# Altium schematic symbol library Resistors_CPF-0805.SchLib: 384 symbols (part 1 of 3)
Pins are listed as number, name and electrical type; pins without a type are passive.

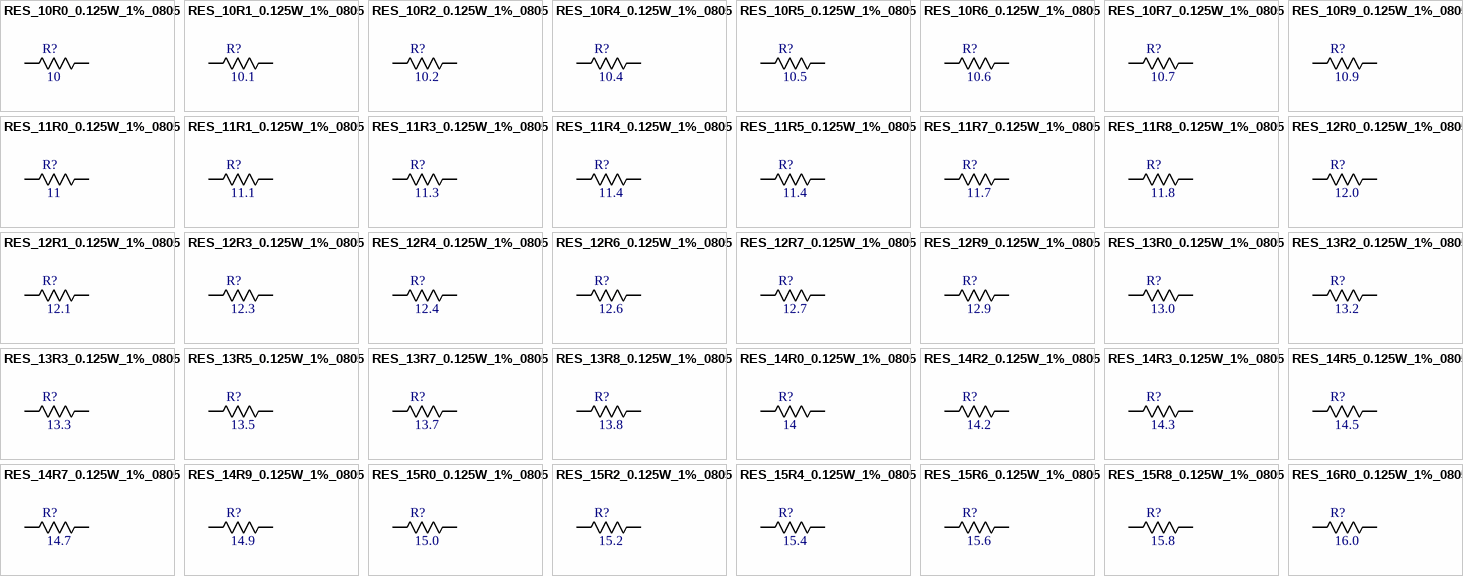
[diagram p0: symbols RES_10R0_0.125W_1%_0805 to RES_16R0_0.125W_1%_0805]

## RES_10R0_0.125W_1%_0805
designator R?, comment 10
Resistenza SMD TE Connectivity Film sottile; Manufacturer_Part_Number: CPF0805B100RE; Voltage[V]: 100; Tollerance[%]: 0.1; Serie: CPF; Codice RS: 666-2516; Vendor: TE Connectivity; Type: Resistors; Package: 0805; Power[W]: 0.1; Value[OHM ]: 100
footprint RES_0816_SUS(My_MAXI)
pins: 1, 2

## RES_10R1_0.125W_1%_0805
designator R?, comment 10.1
Resistenza SMD TE Connectivity Film sottile; Manufacturer_Part_Number: CPF0805B100RE; Voltage[V]: 100; Tollerance[%]: 0.1; Serie: CPF; Codice RS: 666-2516; Vendor: TE Connectivity; Type: Resistors; Package: 0805; Power[W]: 0.1; Value[OHM ]: 100
footprint RES_0816_SUS(My_MAXI)
pins: 1, 2

## RES_10R2_0.125W_1%_0805
designator R?, comment 10.2
Resistenza SMD TE Connectivity Film sottile; Manufacturer_Part_Number: CPF0805B100RE; Voltage[V]: 100; Tollerance[%]: 0.1; Serie: CPF; Codice RS: 666-2516; Vendor: TE Connectivity; Type: Resistors; Package: 0805; Power[W]: 0.1; Value[OHM ]: 100
footprint RES_0816_SUS(My_MAXI)
pins: 1, 2

## RES_10R4_0.125W_1%_0805
designator R?, comment 10.4
Resistenza SMD TE Connectivity Film sottile; Manufacturer_Part_Number: CPF0805B100RE; Voltage[V]: 100; Tollerance[%]: 0.1; Serie: CPF; Codice RS: 666-2516; Vendor: TE Connectivity; Type: Resistors; Package: 0805; Power[W]: 0.1; Value[OHM ]: 100
footprint RES_0816_SUS(My_MAXI)
pins: 1, 2

## RES_10R5_0.125W_1%_0805
designator R?, comment 10.5
Resistenza SMD TE Connectivity Film sottile; Manufacturer_Part_Number: CPF0805B100RE; Voltage[V]: 100; Tollerance[%]: 0.1; Serie: CPF; Codice RS: 666-2516; Vendor: TE Connectivity; Type: Resistors; Package: 0805; Power[W]: 0.1; Value[OHM ]: 100
footprint RES_0816_SUS(My_MAXI)
pins: 1, 2

## RES_10R6_0.125W_1%_0805
designator R?, comment 10.6
Resistenza SMD TE Connectivity Film sottile; Manufacturer_Part_Number: CPF0805B100RE; Voltage[V]: 100; Tollerance[%]: 0.1; Serie: CPF; Codice RS: 666-2516; Vendor: TE Connectivity; Type: Resistors; Package: 0805; Power[W]: 0.1; Value[OHM ]: 100
footprint RES_0816_SUS(My_MAXI)
pins: 1, 2

## RES_10R7_0.125W_1%_0805
designator R?, comment 10.7
Resistenza SMD TE Connectivity Film sottile; Manufacturer_Part_Number: CPF0805B100RE; Voltage[V]: 100; Tollerance[%]: 0.1; Serie: CPF; Codice RS: 666-2516; Vendor: TE Connectivity; Type: Resistors; Package: 0805; Power[W]: 0.1; Value[OHM ]: 100
footprint RES_0816_SUS(My_MAXI)
pins: 1, 2

## RES_10R9_0.125W_1%_0805
designator R?, comment 10.9
Resistenza SMD TE Connectivity Film sottile; Manufacturer_Part_Number: CPF0805B100RE; Voltage[V]: 100; Tollerance[%]: 0.1; Serie: CPF; Codice RS: 666-2516; Vendor: TE Connectivity; Type: Resistors; Package: 0805; Power[W]: 0.1; Value[OHM ]: 100
footprint RES_0816_SUS(My_MAXI)
pins: 1, 2

## RES_11R0_0.125W_1%_0805
designator R?, comment 11
Resistenza SMD TE Connectivity Film sottile; Manufacturer_Part_Number: CPF0805B100RE; Voltage[V]: 100; Tollerance[%]: 0.1; Serie: CPF; Codice RS: 666-2516; Vendor: TE Connectivity; Type: Resistors; Package: 0805; Power[W]: 0.1; Value[OHM ]: 100
footprint RES_0816_SUS(My_MAXI)
pins: 1, 2

## RES_11R1_0.125W_1%_0805
designator R?, comment 11.1
Resistenza SMD TE Connectivity Film sottile; Manufacturer_Part_Number: CPF0805B100RE; Voltage[V]: 100; Tollerance[%]: 0.1; Serie: CPF; Codice RS: 666-2516; Vendor: TE Connectivity; Type: Resistors; Package: 0805; Power[W]: 0.1; Value[OHM ]: 100
footprint RES_0816_SUS(My_MAXI)
pins: 1, 2

## RES_11R3_0.125W_1%_0805
designator R?, comment 11.3
Resistenza SMD TE Connectivity Film sottile; Manufacturer_Part_Number: CPF0805B100RE; Voltage[V]: 100; Tollerance[%]: 0.1; Serie: CPF; Codice RS: 666-2516; Vendor: TE Connectivity; Type: Resistors; Package: 0805; Power[W]: 0.1; Value[OHM ]: 100
footprint RES_0816_SUS(My_MAXI)
pins: 1, 2

## RES_11R4_0.125W_1%_0805
designator R?, comment 11.4
Resistenza SMD TE Connectivity Film sottile; Manufacturer_Part_Number: CPF0805B100RE; Voltage[V]: 100; Tollerance[%]: 0.1; Serie: CPF; Codice RS: 666-2516; Vendor: TE Connectivity; Type: Resistors; Package: 0805; Power[W]: 0.1; Value[OHM ]: 100
footprint RES_0816_SUS(My_MAXI)
pins: 1, 2

## RES_11R5_0.125W_1%_0805
designator R?, comment 11.4
Resistenza SMD TE Connectivity Film sottile; Manufacturer_Part_Number: CPF0805B100RE; Voltage[V]: 100; Tollerance[%]: 0.1; Serie: CPF; Codice RS: 666-2516; Vendor: TE Connectivity; Type: Resistors; Package: 0805; Power[W]: 0.1; Value[OHM ]: 100
footprint RES_0816_SUS(My_MAXI)
pins: 1, 2

## RES_11R7_0.125W_1%_0805
designator R?, comment 11.7
Resistenza SMD TE Connectivity Film sottile; Manufacturer_Part_Number: CPF0805B100RE; Voltage[V]: 100; Tollerance[%]: 0.1; Serie: CPF; Codice RS: 666-2516; Vendor: TE Connectivity; Type: Resistors; Package: 0805; Power[W]: 0.1; Value[OHM ]: 100
footprint RES_0816_SUS(My_MAXI)
pins: 1, 2

## RES_11R8_0.125W_1%_0805
designator R?, comment 11.8
Resistenza SMD TE Connectivity Film sottile; Manufacturer_Part_Number: CPF0805B100RE; Voltage[V]: 100; Tollerance[%]: 0.1; Serie: CPF; Codice RS: 666-2516; Vendor: TE Connectivity; Type: Resistors; Package: 0805; Power[W]: 0.1; Value[OHM ]: 100
footprint RES_0816_SUS(My_MAXI)
pins: 1, 2

## RES_12R0_0.125W_1%_0805
designator R?, comment 12.0
Resistenza SMD TE Connectivity Film sottile; Manufacturer_Part_Number: CPF0805B100RE; Voltage[V]: 100; Tollerance[%]: 0.1; Serie: CPF; Codice RS: 666-2516; Vendor: TE Connectivity; Type: Resistors; Package: 0805; Power[W]: 0.1; Value[OHM ]: 100
footprint RES_0816_SUS(My_MAXI)
pins: 1, 2

## RES_12R1_0.125W_1%_0805
designator R?, comment 12.1
Resistenza SMD TE Connectivity Film sottile; Manufacturer_Part_Number: CPF0805B100RE; Voltage[V]: 100; Tollerance[%]: 0.1; Serie: CPF; Codice RS: 666-2516; Vendor: TE Connectivity; Type: Resistors; Package: 0805; Power[W]: 0.1; Value[OHM ]: 100
footprint RES_0816_SUS(My_MAXI)
pins: 1, 2

## RES_12R3_0.125W_1%_0805
designator R?, comment 12.3
Resistenza SMD TE Connectivity Film sottile; Manufacturer_Part_Number: CPF0805B100RE; Voltage[V]: 100; Tollerance[%]: 0.1; Serie: CPF; Codice RS: 666-2516; Vendor: TE Connectivity; Type: Resistors; Package: 0805; Power[W]: 0.1; Value[OHM ]: 100
footprint RES_0816_SUS(My_MAXI)
pins: 1, 2

## RES_12R4_0.125W_1%_0805
designator R?, comment 12.4
Resistenza SMD TE Connectivity Film sottile; Manufacturer_Part_Number: CPF0805B100RE; Voltage[V]: 100; Tollerance[%]: 0.1; Serie: CPF; Codice RS: 666-2516; Vendor: TE Connectivity; Type: Resistors; Package: 0805; Power[W]: 0.1; Value[OHM ]: 100
footprint RES_0816_SUS(My_MAXI)
pins: 1, 2

## RES_12R6_0.125W_1%_0805
designator R?, comment 12.6
Resistenza SMD TE Connectivity Film sottile; Manufacturer_Part_Number: CPF0805B100RE; Voltage[V]: 100; Tollerance[%]: 0.1; Serie: CPF; Codice RS: 666-2516; Vendor: TE Connectivity; Type: Resistors; Package: 0805; Power[W]: 0.1; Value[OHM ]: 100
footprint RES_0816_SUS(My_MAXI)
pins: 1, 2

## RES_12R7_0.125W_1%_0805
designator R?, comment 12.7
Resistenza SMD TE Connectivity Film sottile; Manufacturer_Part_Number: CPF0805B100RE; Voltage[V]: 100; Tollerance[%]: 0.1; Serie: CPF; Codice RS: 666-2516; Vendor: TE Connectivity; Type: Resistors; Package: 0805; Power[W]: 0.1; Value[OHM ]: 100
footprint RES_0816_SUS(My_MAXI)
pins: 1, 2

## RES_12R9_0.125W_1%_0805
designator R?, comment 12.9
Resistenza SMD TE Connectivity Film sottile; Manufacturer_Part_Number: CPF0805B100RE; Voltage[V]: 100; Tollerance[%]: 0.1; Serie: CPF; Codice RS: 666-2516; Vendor: TE Connectivity; Type: Resistors; Package: 0805; Power[W]: 0.1; Value[OHM ]: 100
footprint RES_0816_SUS(My_MAXI)
pins: 1, 2

## RES_13R0_0.125W_1%_0805
designator R?, comment 13.0
Resistenza SMD TE Connectivity Film sottile; Manufacturer_Part_Number: CPF0805B100RE; Voltage[V]: 100; Tollerance[%]: 0.1; Serie: CPF; Codice RS: 666-2516; Vendor: TE Connectivity; Type: Resistors; Package: 0805; Power[W]: 0.1; Value[OHM ]: 100
footprint RES_0816_SUS(My_MAXI)
pins: 1, 2

## RES_13R2_0.125W_1%_0805
designator R?, comment 13.2
Resistenza SMD TE Connectivity Film sottile; Manufacturer_Part_Number: CPF0805B100RE; Voltage[V]: 100; Tollerance[%]: 0.1; Serie: CPF; Codice RS: 666-2516; Vendor: TE Connectivity; Type: Resistors; Package: 0805; Power[W]: 0.1; Value[OHM ]: 100
footprint RES_0816_SUS(My_MAXI)
pins: 1, 2

## RES_13R3_0.125W_1%_0805
designator R?, comment 13.3
Resistenza SMD TE Connectivity Film sottile; Manufacturer_Part_Number: CPF0805B100RE; Voltage[V]: 100; Tollerance[%]: 0.1; Serie: CPF; Codice RS: 666-2516; Vendor: TE Connectivity; Type: Resistors; Package: 0805; Power[W]: 0.1; Value[OHM ]: 100
footprint RES_0816_SUS(My_MAXI)
pins: 1, 2

## RES_13R5_0.125W_1%_0805
designator R?, comment 13.5
Resistenza SMD TE Connectivity Film sottile; Manufacturer_Part_Number: CPF0805B100RE; Voltage[V]: 100; Tollerance[%]: 0.1; Serie: CPF; Codice RS: 666-2516; Vendor: TE Connectivity; Type: Resistors; Package: 0805; Power[W]: 0.1; Value[OHM ]: 100
footprint RES_0816_SUS(My_MAXI)
pins: 1, 2

## RES_13R7_0.125W_1%_0805
designator R?, comment 13.7
Resistenza SMD TE Connectivity Film sottile; Manufacturer_Part_Number: CPF0805B100RE; Voltage[V]: 100; Tollerance[%]: 0.1; Serie: CPF; Codice RS: 666-2516; Vendor: TE Connectivity; Type: Resistors; Package: 0805; Power[W]: 0.1; Value[OHM ]: 100
footprint RES_0816_SUS(My_MAXI)
pins: 1, 2

## RES_13R8_0.125W_1%_0805
designator R?, comment 13.8
Resistenza SMD TE Connectivity Film sottile; Manufacturer_Part_Number: CPF0805B100RE; Voltage[V]: 100; Tollerance[%]: 0.1; Serie: CPF; Codice RS: 666-2516; Vendor: TE Connectivity; Type: Resistors; Package: 0805; Power[W]: 0.1; Value[OHM ]: 100
footprint RES_0816_SUS(My_MAXI)
pins: 1, 2

## RES_14R0_0.125W_1%_0805
designator R?, comment 14
Resistenza SMD TE Connectivity Film sottile; Manufacturer_Part_Number: CPF0805B100RE; Voltage[V]: 100; Tollerance[%]: 0.1; Serie: CPF; Codice RS: 666-2516; Vendor: TE Connectivity; Type: Resistors; Package: 0805; Power[W]: 0.1; Value[OHM ]: 100
footprint RES_0816_SUS(My_MAXI)
pins: 1, 2

## RES_14R2_0.125W_1%_0805
designator R?, comment 14.2
Resistenza SMD TE Connectivity Film sottile; Manufacturer_Part_Number: CPF0805B100RE; Voltage[V]: 100; Tollerance[%]: 0.1; Serie: CPF; Codice RS: 666-2516; Vendor: TE Connectivity; Type: Resistors; Package: 0805; Power[W]: 0.1; Value[OHM ]: 100
footprint RES_0816_SUS(My_MAXI)
pins: 1, 2

## RES_14R3_0.125W_1%_0805
designator R?, comment 14.3
Resistenza SMD TE Connectivity Film sottile; Manufacturer_Part_Number: CPF0805B100RE; Voltage[V]: 100; Tollerance[%]: 0.1; Serie: CPF; Codice RS: 666-2516; Vendor: TE Connectivity; Type: Resistors; Package: 0805; Power[W]: 0.1; Value[OHM ]: 100
footprint RES_0816_SUS(My_MAXI)
pins: 1, 2

## RES_14R5_0.125W_1%_0805
designator R?, comment 14.5
Resistenza SMD TE Connectivity Film sottile; Manufacturer_Part_Number: CPF0805B100RE; Voltage[V]: 100; Tollerance[%]: 0.1; Serie: CPF; Codice RS: 666-2516; Vendor: TE Connectivity; Type: Resistors; Package: 0805; Power[W]: 0.1; Value[OHM ]: 100
footprint RES_0816_SUS(My_MAXI)
pins: 1, 2

## RES_14R7_0.125W_1%_0805
designator R?, comment 14.7
Resistenza SMD TE Connectivity Film sottile; Manufacturer_Part_Number: CPF0805B100RE; Voltage[V]: 100; Tollerance[%]: 0.1; Serie: CPF; Codice RS: 666-2516; Vendor: TE Connectivity; Type: Resistors; Package: 0805; Power[W]: 0.1; Value[OHM ]: 100
footprint RES_0816_SUS(My_MAXI)
pins: 1, 2

## RES_14R9_0.125W_1%_0805
designator R?, comment 14.9
Resistenza SMD TE Connectivity Film sottile; Manufacturer_Part_Number: CPF0805B100RE; Voltage[V]: 100; Tollerance[%]: 0.1; Serie: CPF; Codice RS: 666-2516; Vendor: TE Connectivity; Type: Resistors; Package: 0805; Power[W]: 0.1; Value[OHM ]: 100
footprint RES_0816_SUS(My_MAXI)
pins: 1, 2

## RES_15R0_0.125W_1%_0805
designator R?, comment 15.0
Resistenza SMD TE Connectivity Film sottile; Manufacturer_Part_Number: CPF0805B100RE; Voltage[V]: 100; Tollerance[%]: 0.1; Serie: CPF; Codice RS: 666-2516; Vendor: TE Connectivity; Type: Resistors; Package: 0805; Power[W]: 0.1; Value[OHM ]: 100
footprint RES_0816_SUS(My_MAXI)
pins: 1, 2

## RES_15R2_0.125W_1%_0805
designator R?, comment 15.2
Resistenza SMD TE Connectivity Film sottile; Manufacturer_Part_Number: CPF0805B100RE; Voltage[V]: 100; Tollerance[%]: 0.1; Serie: CPF; Codice RS: 666-2516; Vendor: TE Connectivity; Type: Resistors; Package: 0805; Power[W]: 0.1; Value[OHM ]: 100
footprint RES_0816_SUS(My_MAXI)
pins: 1, 2

## RES_15R4_0.125W_1%_0805
designator R?, comment 15.4
Resistenza SMD TE Connectivity Film sottile; Manufacturer_Part_Number: CPF0805B100RE; Voltage[V]: 100; Tollerance[%]: 0.1; Serie: CPF; Codice RS: 666-2516; Vendor: TE Connectivity; Type: Resistors; Package: 0805; Power[W]: 0.1; Value[OHM ]: 100
footprint RES_0816_SUS(My_MAXI)
pins: 1, 2

## RES_15R6_0.125W_1%_0805
designator R?, comment 15.6
Resistenza SMD TE Connectivity Film sottile; Manufacturer_Part_Number: CPF0805B100RE; Voltage[V]: 100; Tollerance[%]: 0.1; Serie: CPF; Codice RS: 666-2516; Vendor: TE Connectivity; Type: Resistors; Package: 0805; Power[W]: 0.1; Value[OHM ]: 100
footprint RES_0816_SUS(My_MAXI)
pins: 1, 2

## RES_15R8_0.125W_1%_0805
designator R?, comment 15.8
Resistenza SMD TE Connectivity Film sottile; Manufacturer_Part_Number: CPF0805B100RE; Voltage[V]: 100; Tollerance[%]: 0.1; Serie: CPF; Codice RS: 666-2516; Vendor: TE Connectivity; Type: Resistors; Package: 0805; Power[W]: 0.1; Value[OHM ]: 100
footprint RES_0816_SUS(My_MAXI)
pins: 1, 2

## RES_16R0_0.125W_1%_0805
designator R?, comment 16.0
Resistenza SMD TE Connectivity Film sottile; Manufacturer_Part_Number: CPF0805B100RE; Voltage[V]: 100; Tollerance[%]: 0.1; Serie: CPF; Codice RS: 666-2516; Vendor: TE Connectivity; Type: Resistors; Package: 0805; Power[W]: 0.1; Value[OHM ]: 100
footprint RES_0816_SUS(My_MAXI)
pins: 1, 2

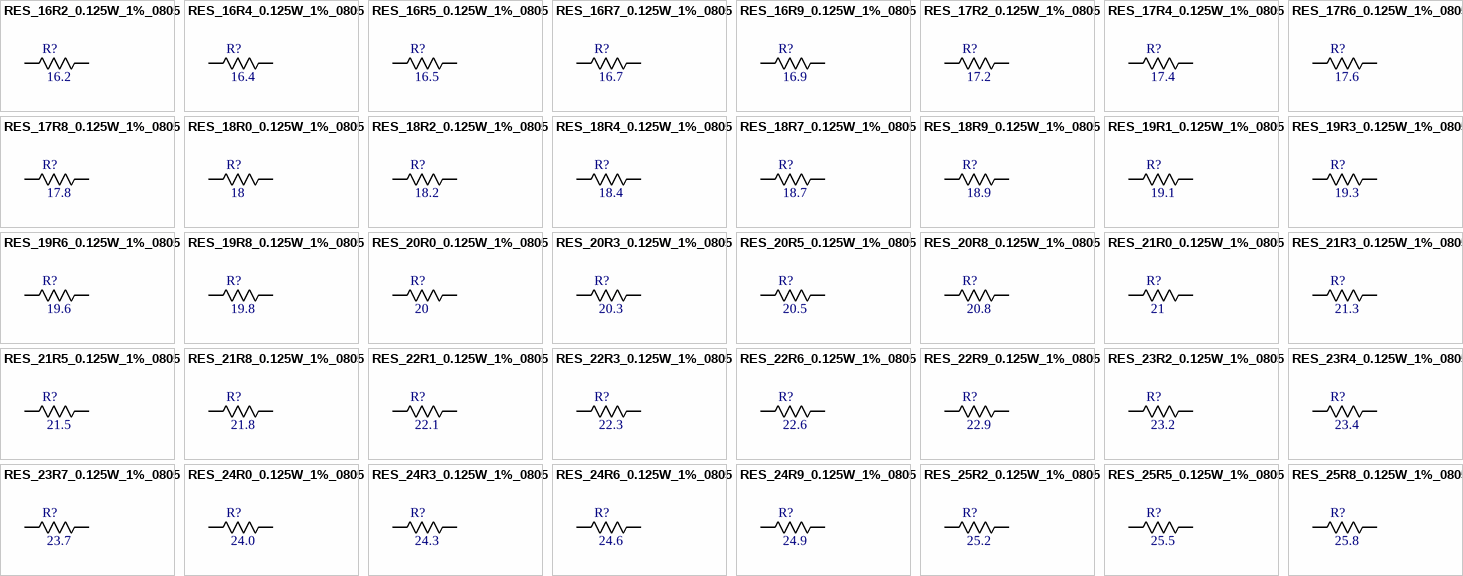
[diagram p1: symbols RES_16R2_0.125W_1%_0805 to RES_25R8_0.125W_1%_0805]

## RES_16R2_0.125W_1%_0805
designator R?, comment 16.2
Resistenza SMD TE Connectivity Film sottile; Manufacturer_Part_Number: CPF0805B100RE; Voltage[V]: 100; Tollerance[%]: 0.1; Serie: CPF; Codice RS: 666-2516; Vendor: TE Connectivity; Type: Resistors; Package: 0805; Power[W]: 0.1; Value[OHM ]: 100
footprint RES_0816_SUS(My_MAXI)
pins: 1, 2

## RES_16R4_0.125W_1%_0805
designator R?, comment 16.4
Resistenza SMD TE Connectivity Film sottile; Manufacturer_Part_Number: CPF0805B100RE; Voltage[V]: 100; Tollerance[%]: 0.1; Serie: CPF; Codice RS: 666-2516; Vendor: TE Connectivity; Type: Resistors; Package: 0805; Power[W]: 0.1; Value[OHM ]: 100
footprint RES_0816_SUS(My_MAXI)
pins: 1, 2

## RES_16R5_0.125W_1%_0805
designator R?, comment 16.5
Resistenza SMD TE Connectivity Film sottile; Manufacturer_Part_Number: CPF0805B100RE; Voltage[V]: 100; Tollerance[%]: 0.1; Serie: CPF; Codice RS: 666-2516; Vendor: TE Connectivity; Type: Resistors; Package: 0805; Power[W]: 0.1; Value[OHM ]: 100
footprint RES_0816_SUS(My_MAXI)
pins: 1, 2

## RES_16R7_0.125W_1%_0805
designator R?, comment 16.7
Resistenza SMD TE Connectivity Film sottile; Manufacturer_Part_Number: CPF0805B100RE; Voltage[V]: 100; Tollerance[%]: 0.1; Serie: CPF; Codice RS: 666-2516; Vendor: TE Connectivity; Type: Resistors; Package: 0805; Power[W]: 0.1; Value[OHM ]: 100
footprint RES_0816_SUS(My_MAXI)
pins: 1, 2

## RES_16R9_0.125W_1%_0805
designator R?, comment 16.9
Resistenza SMD TE Connectivity Film sottile; Manufacturer_Part_Number: CPF0805B100RE; Voltage[V]: 100; Tollerance[%]: 0.1; Serie: CPF; Codice RS: 666-2516; Vendor: TE Connectivity; Type: Resistors; Package: 0805; Power[W]: 0.1; Value[OHM ]: 100
footprint RES_0816_SUS(My_MAXI)
pins: 1, 2

## RES_17R2_0.125W_1%_0805
designator R?, comment 17.2
Resistenza SMD TE Connectivity Film sottile; Manufacturer_Part_Number: CPF0805B100RE; Voltage[V]: 100; Tollerance[%]: 0.1; Serie: CPF; Codice RS: 666-2516; Vendor: TE Connectivity; Type: Resistors; Package: 0805; Power[W]: 0.1; Value[OHM ]: 100
footprint RES_0816_SUS(My_MAXI)
pins: 1, 2

## RES_17R4_0.125W_1%_0805
designator R?, comment 17.4
Resistenza SMD TE Connectivity Film sottile; Manufacturer_Part_Number: CPF0805B100RE; Voltage[V]: 100; Tollerance[%]: 0.1; Serie: CPF; Codice RS: 666-2516; Vendor: TE Connectivity; Type: Resistors; Package: 0805; Power[W]: 0.1; Value[OHM ]: 100
footprint RES_0816_SUS(My_MAXI)
pins: 1, 2

## RES_17R6_0.125W_1%_0805
designator R?, comment 17.6
Resistenza SMD TE Connectivity Film sottile; Manufacturer_Part_Number: CPF0805B100RE; Voltage[V]: 100; Tollerance[%]: 0.1; Serie: CPF; Codice RS: 666-2516; Vendor: TE Connectivity; Type: Resistors; Package: 0805; Power[W]: 0.1; Value[OHM ]: 100
footprint RES_0816_SUS(My_MAXI)
pins: 1, 2

## RES_17R8_0.125W_1%_0805
designator R?, comment 17.8
Resistenza SMD TE Connectivity Film sottile; Manufacturer_Part_Number: CPF0805B100RE; Voltage[V]: 100; Tollerance[%]: 0.1; Serie: CPF; Codice RS: 666-2516; Vendor: TE Connectivity; Type: Resistors; Package: 0805; Power[W]: 0.1; Value[OHM ]: 100
footprint RES_0816_SUS(My_MAXI)
pins: 1, 2

## RES_18R0_0.125W_1%_0805
designator R?, comment 18
Resistenza SMD TE Connectivity Film sottile; Manufacturer_Part_Number: CPF0805B100RE; Voltage[V]: 100; Tollerance[%]: 0.1; Serie: CPF; Codice RS: 666-2516; Vendor: TE Connectivity; Type: Resistors; Package: 0805; Power[W]: 0.1; Value[OHM ]: 100
footprint RES_0816_SUS(My_MAXI)
pins: 1, 2

## RES_18R2_0.125W_1%_0805
designator R?, comment 18.2
Resistenza SMD TE Connectivity Film sottile; Manufacturer_Part_Number: CPF0805B100RE; Voltage[V]: 100; Tollerance[%]: 0.1; Serie: CPF; Codice RS: 666-2516; Vendor: TE Connectivity; Type: Resistors; Package: 0805; Power[W]: 0.1; Value[OHM ]: 100
footprint RES_0816_SUS(My_MAXI)
pins: 1, 2

## RES_18R4_0.125W_1%_0805
designator R?, comment 18.4
Resistenza SMD TE Connectivity Film sottile; Manufacturer_Part_Number: CPF0805B100RE; Voltage[V]: 100; Tollerance[%]: 0.1; Serie: CPF; Codice RS: 666-2516; Vendor: TE Connectivity; Type: Resistors; Package: 0805; Power[W]: 0.1; Value[OHM ]: 100
footprint RES_0816_SUS(My_MAXI)
pins: 1, 2

## RES_18R7_0.125W_1%_0805
designator R?, comment 18.7
Resistenza SMD TE Connectivity Film sottile; Manufacturer_Part_Number: CPF0805B100RE; Voltage[V]: 100; Tollerance[%]: 0.1; Serie: CPF; Codice RS: 666-2516; Vendor: TE Connectivity; Type: Resistors; Package: 0805; Power[W]: 0.1; Value[OHM ]: 100
footprint RES_0816_SUS(My_MAXI)
pins: 1, 2

## RES_18R9_0.125W_1%_0805
designator R?, comment 18.9
Resistenza SMD TE Connectivity Film sottile; Manufacturer_Part_Number: CPF0805B100RE; Voltage[V]: 100; Tollerance[%]: 0.1; Serie: CPF; Codice RS: 666-2516; Vendor: TE Connectivity; Type: Resistors; Package: 0805; Power[W]: 0.1; Value[OHM ]: 100
footprint RES_0816_SUS(My_MAXI)
pins: 1, 2

## RES_19R1_0.125W_1%_0805
designator R?, comment 19.1
Resistenza SMD TE Connectivity Film sottile; Manufacturer_Part_Number: CPF0805B100RE; Voltage[V]: 100; Tollerance[%]: 0.1; Serie: CPF; Codice RS: 666-2516; Vendor: TE Connectivity; Type: Resistors; Package: 0805; Power[W]: 0.1; Value[OHM ]: 100
footprint RES_0816_SUS(My_MAXI)
pins: 1, 2

## RES_19R3_0.125W_1%_0805
designator R?, comment 19.3
Resistenza SMD TE Connectivity Film sottile; Manufacturer_Part_Number: CPF0805B100RE; Voltage[V]: 100; Tollerance[%]: 0.1; Serie: CPF; Codice RS: 666-2516; Vendor: TE Connectivity; Type: Resistors; Package: 0805; Power[W]: 0.1; Value[OHM ]: 100
footprint RES_0816_SUS(My_MAXI)
pins: 1, 2

## RES_19R6_0.125W_1%_0805
designator R?, comment 19.6
Resistenza SMD TE Connectivity Film sottile; Manufacturer_Part_Number: CPF0805B100RE; Voltage[V]: 100; Tollerance[%]: 0.1; Serie: CPF; Codice RS: 666-2516; Vendor: TE Connectivity; Type: Resistors; Package: 0805; Power[W]: 0.1; Value[OHM ]: 100
footprint RES_0816_SUS(My_MAXI)
pins: 1, 2

## RES_19R8_0.125W_1%_0805
designator R?, comment 19.8
Resistenza SMD TE Connectivity Film sottile; Manufacturer_Part_Number: CPF0805B100RE; Voltage[V]: 100; Tollerance[%]: 0.1; Serie: CPF; Codice RS: 666-2516; Vendor: TE Connectivity; Type: Resistors; Package: 0805; Power[W]: 0.1; Value[OHM ]: 100
footprint RES_0816_SUS(My_MAXI)
pins: 1, 2

## RES_20R0_0.125W_1%_0805
designator R?, comment 20
Resistenza SMD TE Connectivity Film sottile; Manufacturer_Part_Number: CPF0805B100RE; Voltage[V]: 100; Tollerance[%]: 0.1; Serie: CPF; Codice RS: 666-2516; Vendor: TE Connectivity; Type: Resistors; Package: 0805; Power[W]: 0.1; Value[OHM ]: 100
footprint RES_0816_SUS(My_MAXI)
pins: 1, 2

## RES_20R3_0.125W_1%_0805
designator R?, comment 20.3
Resistenza SMD TE Connectivity Film sottile; Manufacturer_Part_Number: CPF0805B100RE; Voltage[V]: 100; Tollerance[%]: 0.1; Serie: CPF; Codice RS: 666-2516; Vendor: TE Connectivity; Type: Resistors; Package: 0805; Power[W]: 0.1; Value[OHM ]: 100
footprint RES_0816_SUS(My_MAXI)
pins: 1, 2

## RES_20R5_0.125W_1%_0805
designator R?, comment 20.5
Resistenza SMD TE Connectivity Film sottile; Manufacturer_Part_Number: CPF0805B100RE; Voltage[V]: 100; Tollerance[%]: 0.1; Serie: CPF; Codice RS: 666-2516; Vendor: TE Connectivity; Type: Resistors; Package: 0805; Power[W]: 0.1; Value[OHM ]: 100
footprint RES_0816_SUS(My_MAXI)
pins: 1, 2

## RES_20R8_0.125W_1%_0805
designator R?, comment 20.8
Resistenza SMD TE Connectivity Film sottile; Manufacturer_Part_Number: CPF0805B100RE; Voltage[V]: 100; Tollerance[%]: 0.1; Serie: CPF; Codice RS: 666-2516; Vendor: TE Connectivity; Type: Resistors; Package: 0805; Power[W]: 0.1; Value[OHM ]: 100
footprint RES_0816_SUS(My_MAXI)
pins: 1, 2

## RES_21R0_0.125W_1%_0805
designator R?, comment 21
Resistenza SMD TE Connectivity Film sottile; Manufacturer_Part_Number: CPF0805B100RE; Voltage[V]: 100; Tollerance[%]: 0.1; Serie: CPF; Codice RS: 666-2516; Vendor: TE Connectivity; Type: Resistors; Package: 0805; Power[W]: 0.1; Value[OHM ]: 100
footprint RES_0816_SUS(My_MAXI)
pins: 1, 2

## RES_21R3_0.125W_1%_0805
designator R?, comment 21.3
Resistenza SMD TE Connectivity Film sottile; Manufacturer_Part_Number: CPF0805B100RE; Voltage[V]: 100; Tollerance[%]: 0.1; Serie: CPF; Codice RS: 666-2516; Vendor: TE Connectivity; Type: Resistors; Package: 0805; Power[W]: 0.1; Value[OHM ]: 100
footprint RES_0816_SUS(My_MAXI)
pins: 1, 2

## RES_21R5_0.125W_1%_0805
designator R?, comment 21.5
Resistenza SMD TE Connectivity Film sottile; Manufacturer_Part_Number: CPF0805B100RE; Voltage[V]: 100; Tollerance[%]: 0.1; Serie: CPF; Codice RS: 666-2516; Vendor: TE Connectivity; Type: Resistors; Package: 0805; Power[W]: 0.1; Value[OHM ]: 100
footprint RES_0816_SUS(My_MAXI)
pins: 1, 2

## RES_21R8_0.125W_1%_0805
designator R?, comment 21.8
Resistenza SMD TE Connectivity Film sottile; Manufacturer_Part_Number: CPF0805B100RE; Voltage[V]: 100; Tollerance[%]: 0.1; Serie: CPF; Codice RS: 666-2516; Vendor: TE Connectivity; Type: Resistors; Package: 0805; Power[W]: 0.1; Value[OHM ]: 100
footprint RES_0816_SUS(My_MAXI)
pins: 1, 2

## RES_22R1_0.125W_1%_0805
designator R?, comment 22.1
Resistenza SMD TE Connectivity Film sottile; Manufacturer_Part_Number: CPF0805B100RE; Voltage[V]: 100; Tollerance[%]: 0.1; Serie: CPF; Codice RS: 666-2516; Vendor: TE Connectivity; Type: Resistors; Package: 0805; Power[W]: 0.1; Value[OHM ]: 100
footprint RES_0816_SUS(My_MAXI)
pins: 1, 2

## RES_22R3_0.125W_1%_0805
designator R?, comment 22.3
Resistenza SMD TE Connectivity Film sottile; Manufacturer_Part_Number: CPF0805B100RE; Voltage[V]: 100; Tollerance[%]: 0.1; Serie: CPF; Codice RS: 666-2516; Vendor: TE Connectivity; Type: Resistors; Package: 0805; Power[W]: 0.1; Value[OHM ]: 100
footprint RES_0816_SUS(My_MAXI)
pins: 1, 2

## RES_22R6_0.125W_1%_0805
designator R?, comment 22.6
Resistenza SMD TE Connectivity Film sottile; Manufacturer_Part_Number: CPF0805B100RE; Voltage[V]: 100; Tollerance[%]: 0.1; Serie: CPF; Codice RS: 666-2516; Vendor: TE Connectivity; Type: Resistors; Package: 0805; Power[W]: 0.1; Value[OHM ]: 100
footprint RES_0816_SUS(My_MAXI)
pins: 1, 2

## RES_22R9_0.125W_1%_0805
designator R?, comment 22.9
Resistenza SMD TE Connectivity Film sottile; Manufacturer_Part_Number: CPF0805B100RE; Voltage[V]: 100; Tollerance[%]: 0.1; Serie: CPF; Codice RS: 666-2516; Vendor: TE Connectivity; Type: Resistors; Package: 0805; Power[W]: 0.1; Value[OHM ]: 100
footprint RES_0816_SUS(My_MAXI)
pins: 1, 2

## RES_23R2_0.125W_1%_0805
designator R?, comment 23.2
Resistenza SMD TE Connectivity Film sottile; Manufacturer_Part_Number: CPF0805B100RE; Voltage[V]: 100; Tollerance[%]: 0.1; Serie: CPF; Codice RS: 666-2516; Vendor: TE Connectivity; Type: Resistors; Package: 0805; Power[W]: 0.1; Value[OHM ]: 100
footprint RES_0816_SUS(My_MAXI)
pins: 1, 2

## RES_23R4_0.125W_1%_0805
designator R?, comment 23.4
Resistenza SMD TE Connectivity Film sottile; Manufacturer_Part_Number: CPF0805B100RE; Voltage[V]: 100; Tollerance[%]: 0.1; Serie: CPF; Codice RS: 666-2516; Vendor: TE Connectivity; Type: Resistors; Package: 0805; Power[W]: 0.1; Value[OHM ]: 100
footprint RES_0816_SUS(My_MAXI)
pins: 1, 2

## RES_23R7_0.125W_1%_0805
designator R?, comment 23.7
Resistenza SMD TE Connectivity Film sottile; Manufacturer_Part_Number: CPF0805B100RE; Voltage[V]: 100; Tollerance[%]: 0.1; Serie: CPF; Codice RS: 666-2516; Vendor: TE Connectivity; Type: Resistors; Package: 0805; Power[W]: 0.1; Value[OHM ]: 100
footprint RES_0816_SUS(My_MAXI)
pins: 1, 2

## RES_24R0_0.125W_1%_0805
designator R?, comment 24.0
Resistenza SMD TE Connectivity Film sottile; Manufacturer_Part_Number: CPF0805B100RE; Voltage[V]: 100; Tollerance[%]: 0.1; Serie: CPF; Codice RS: 666-2516; Vendor: TE Connectivity; Type: Resistors; Package: 0805; Power[W]: 0.1; Value[OHM ]: 100
footprint RES_0816_SUS(My_MAXI)
pins: 1, 2

## RES_24R3_0.125W_1%_0805
designator R?, comment 24.3
Resistenza SMD TE Connectivity Film sottile; Manufacturer_Part_Number: CPF0805B100RE; Voltage[V]: 100; Tollerance[%]: 0.1; Serie: CPF; Codice RS: 666-2516; Vendor: TE Connectivity; Type: Resistors; Package: 0805; Power[W]: 0.1; Value[OHM ]: 100
footprint RES_0816_SUS(My_MAXI)
pins: 1, 2

## RES_24R6_0.125W_1%_0805
designator R?, comment 24.6
Resistenza SMD TE Connectivity Film sottile; Manufacturer_Part_Number: CPF0805B100RE; Voltage[V]: 100; Tollerance[%]: 0.1; Serie: CPF; Codice RS: 666-2516; Vendor: TE Connectivity; Type: Resistors; Package: 0805; Power[W]: 0.1; Value[OHM ]: 100
footprint RES_0816_SUS(My_MAXI)
pins: 1, 2

## RES_24R9_0.125W_1%_0805
designator R?, comment 24.9
Resistenza SMD TE Connectivity Film sottile; Manufacturer_Part_Number: CPF0805B100RE; Voltage[V]: 100; Tollerance[%]: 0.1; Serie: CPF; Codice RS: 666-2516; Vendor: TE Connectivity; Type: Resistors; Package: 0805; Power[W]: 0.1; Value[OHM ]: 100
footprint RES_0816_SUS(My_MAXI)
pins: 1, 2

## RES_25R2_0.125W_1%_0805
designator R?, comment 25.2
Resistenza SMD TE Connectivity Film sottile; Manufacturer_Part_Number: CPF0805B100RE; Voltage[V]: 100; Tollerance[%]: 0.1; Serie: CPF; Codice RS: 666-2516; Vendor: TE Connectivity; Type: Resistors; Package: 0805; Power[W]: 0.1; Value[OHM ]: 100
footprint RES_0816_SUS(My_MAXI)
pins: 1, 2

## RES_25R5_0.125W_1%_0805
designator R?, comment 25.5
Resistenza SMD TE Connectivity Film sottile; Manufacturer_Part_Number: CPF0805B100RE; Voltage[V]: 100; Tollerance[%]: 0.1; Serie: CPF; Codice RS: 666-2516; Vendor: TE Connectivity; Type: Resistors; Package: 0805; Power[W]: 0.1; Value[OHM ]: 100
footprint RES_0816_SUS(My_MAXI)
pins: 1, 2

## RES_25R8_0.125W_1%_0805
designator R?, comment 25.8
Resistenza SMD TE Connectivity Film sottile; Manufacturer_Part_Number: CPF0805B100RE; Voltage[V]: 100; Tollerance[%]: 0.1; Serie: CPF; Codice RS: 666-2516; Vendor: TE Connectivity; Type: Resistors; Package: 0805; Power[W]: 0.1; Value[OHM ]: 100
footprint RES_0816_SUS(My_MAXI)
pins: 1, 2

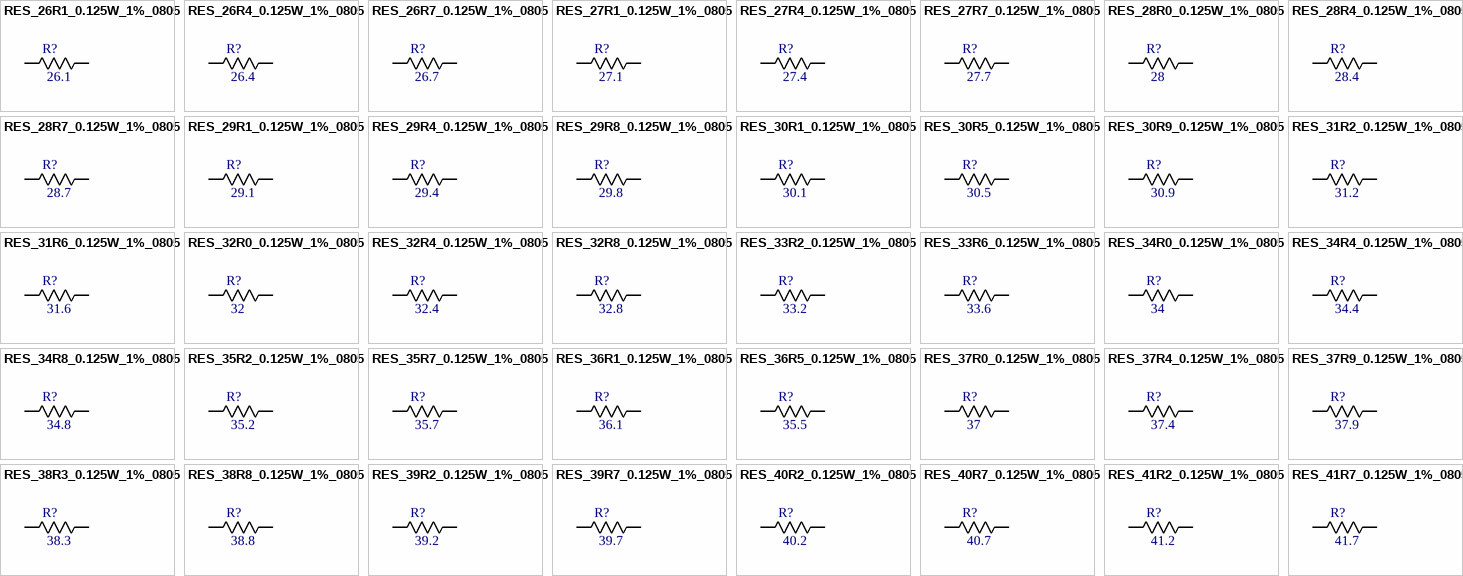
[diagram p2: symbols RES_26R1_0.125W_1%_0805 to RES_41R7_0.125W_1%_0805]

## RES_26R1_0.125W_1%_0805
designator R?, comment 26.1
Resistenza SMD TE Connectivity Film sottile; Manufacturer_Part_Number: CPF0805B100RE; Voltage[V]: 100; Tollerance[%]: 0.1; Serie: CPF; Codice RS: 666-2516; Vendor: TE Connectivity; Type: Resistors; Package: 0805; Power[W]: 0.1; Value[OHM ]: 100
footprint RES_0816_SUS(My_MAXI)
pins: 1, 2

## RES_26R4_0.125W_1%_0805
designator R?, comment 26.4
Resistenza SMD TE Connectivity Film sottile; Manufacturer_Part_Number: CPF0805B100RE; Voltage[V]: 100; Tollerance[%]: 0.1; Serie: CPF; Codice RS: 666-2516; Vendor: TE Connectivity; Type: Resistors; Package: 0805; Power[W]: 0.1; Value[OHM ]: 100
footprint RES_0816_SUS(My_MAXI)
pins: 1, 2

## RES_26R7_0.125W_1%_0805
designator R?, comment 26.7
Resistenza SMD TE Connectivity Film sottile; Manufacturer_Part_Number: CPF0805B100RE; Voltage[V]: 100; Tollerance[%]: 0.1; Serie: CPF; Codice RS: 666-2516; Vendor: TE Connectivity; Type: Resistors; Package: 0805; Power[W]: 0.1; Value[OHM ]: 100
footprint RES_0816_SUS(My_MAXI)
pins: 1, 2

## RES_27R1_0.125W_1%_0805
designator R?, comment 27.1
Resistenza SMD TE Connectivity Film sottile; Manufacturer_Part_Number: CPF0805B100RE; Voltage[V]: 100; Tollerance[%]: 0.1; Serie: CPF; Codice RS: 666-2516; Vendor: TE Connectivity; Type: Resistors; Package: 0805; Power[W]: 0.1; Value[OHM ]: 100
footprint RES_0816_SUS(My_MAXI)
pins: 1, 2

## RES_27R4_0.125W_1%_0805
designator R?, comment 27.4
Resistenza SMD TE Connectivity Film sottile; Manufacturer_Part_Number: CPF0805B100RE; Voltage[V]: 100; Tollerance[%]: 0.1; Serie: CPF; Codice RS: 666-2516; Vendor: TE Connectivity; Type: Resistors; Package: 0805; Power[W]: 0.1; Value[OHM ]: 100
footprint RES_0816_SUS(My_MAXI)
pins: 1, 2

## RES_27R7_0.125W_1%_0805
designator R?, comment 27.7
Resistenza SMD TE Connectivity Film sottile; Manufacturer_Part_Number: CPF0805B100RE; Voltage[V]: 100; Tollerance[%]: 0.1; Serie: CPF; Codice RS: 666-2516; Vendor: TE Connectivity; Type: Resistors; Package: 0805; Power[W]: 0.1; Value[OHM ]: 100
footprint RES_0816_SUS(My_MAXI)
pins: 1, 2

## RES_28R0_0.125W_1%_0805
designator R?, comment 28
Resistenza SMD TE Connectivity Film sottile; Manufacturer_Part_Number: CPF0805B100RE; Voltage[V]: 100; Tollerance[%]: 0.1; Serie: CPF; Codice RS: 666-2516; Vendor: TE Connectivity; Type: Resistors; Package: 0805; Power[W]: 0.1; Value[OHM ]: 100
footprint RES_0816_SUS(My_MAXI)
pins: 1, 2

## RES_28R4_0.125W_1%_0805
designator R?, comment 28.4
Resistenza SMD TE Connectivity Film sottile; Manufacturer_Part_Number: CPF0805B100RE; Voltage[V]: 100; Tollerance[%]: 0.1; Serie: CPF; Codice RS: 666-2516; Vendor: TE Connectivity; Type: Resistors; Package: 0805; Power[W]: 0.1; Value[OHM ]: 100
footprint RES_0816_SUS(My_MAXI)
pins: 1, 2

## RES_28R7_0.125W_1%_0805
designator R?, comment 28.7
Resistenza SMD TE Connectivity Film sottile; Manufacturer_Part_Number: CPF0805B100RE; Voltage[V]: 100; Tollerance[%]: 0.1; Serie: CPF; Codice RS: 666-2516; Vendor: TE Connectivity; Type: Resistors; Package: 0805; Power[W]: 0.1; Value[OHM ]: 100
footprint RES_0816_SUS(My_MAXI)
pins: 1, 2

## RES_29R1_0.125W_1%_0805
designator R?, comment 29.1
Resistenza SMD TE Connectivity Film sottile; Manufacturer_Part_Number: CPF0805B100RE; Voltage[V]: 100; Tollerance[%]: 0.1; Serie: CPF; Codice RS: 666-2516; Vendor: TE Connectivity; Type: Resistors; Package: 0805; Power[W]: 0.1; Value[OHM ]: 100
footprint RES_0816_SUS(My_MAXI)
pins: 1, 2

## RES_29R4_0.125W_1%_0805
designator R?, comment 29.4
Resistenza SMD TE Connectivity Film sottile; Manufacturer_Part_Number: CPF0805B100RE; Voltage[V]: 100; Tollerance[%]: 0.1; Serie: CPF; Codice RS: 666-2516; Vendor: TE Connectivity; Type: Resistors; Package: 0805; Power[W]: 0.1; Value[OHM ]: 100
footprint RES_0816_SUS(My_MAXI)
pins: 1, 2

## RES_29R8_0.125W_1%_0805
designator R?, comment 29.8
Resistenza SMD TE Connectivity Film sottile; Manufacturer_Part_Number: CPF0805B100RE; Voltage[V]: 100; Tollerance[%]: 0.1; Serie: CPF; Codice RS: 666-2516; Vendor: TE Connectivity; Type: Resistors; Package: 0805; Power[W]: 0.1; Value[OHM ]: 100
footprint RES_0816_SUS(My_MAXI)
pins: 1, 2

## RES_30R1_0.125W_1%_0805
designator R?, comment 30.1
Resistenza SMD TE Connectivity Film sottile; Manufacturer_Part_Number: CPF0805B100RE; Voltage[V]: 100; Tollerance[%]: 0.1; Serie: CPF; Codice RS: 666-2516; Vendor: TE Connectivity; Type: Resistors; Package: 0805; Power[W]: 0.1; Value[OHM ]: 100
footprint RES_0816_SUS(My_MAXI)
pins: 1, 2

## RES_30R5_0.125W_1%_0805
designator R?, comment 30.5
Resistenza SMD TE Connectivity Film sottile; Manufacturer_Part_Number: CPF0805B100RE; Voltage[V]: 100; Tollerance[%]: 0.1; Serie: CPF; Codice RS: 666-2516; Vendor: TE Connectivity; Type: Resistors; Package: 0805; Power[W]: 0.1; Value[OHM ]: 100
footprint RES_0816_SUS(My_MAXI)
pins: 1, 2

## RES_30R9_0.125W_1%_0805
designator R?, comment 30.9
Resistenza SMD TE Connectivity Film sottile; Manufacturer_Part_Number: CPF0805B100RE; Voltage[V]: 100; Tollerance[%]: 0.1; Serie: CPF; Codice RS: 666-2516; Vendor: TE Connectivity; Type: Resistors; Package: 0805; Power[W]: 0.1; Value[OHM ]: 100
footprint RES_0816_SUS(My_MAXI)
pins: 1, 2

## RES_31R2_0.125W_1%_0805
designator R?, comment 31.2
Resistenza SMD TE Connectivity Film sottile; Manufacturer_Part_Number: CPF0805B100RE; Voltage[V]: 100; Tollerance[%]: 0.1; Serie: CPF; Codice RS: 666-2516; Vendor: TE Connectivity; Type: Resistors; Package: 0805; Power[W]: 0.1; Value[OHM ]: 100
footprint RES_0816_SUS(My_MAXI)
pins: 1, 2

## RES_31R6_0.125W_1%_0805
designator R?, comment 31.6
Resistenza SMD TE Connectivity Film sottile; Manufacturer_Part_Number: CPF0805B100RE; Voltage[V]: 100; Tollerance[%]: 0.1; Serie: CPF; Codice RS: 666-2516; Vendor: TE Connectivity; Type: Resistors; Package: 0805; Power[W]: 0.1; Value[OHM ]: 100
footprint RES_0816_SUS(My_MAXI)
pins: 1, 2

## RES_32R0_0.125W_1%_0805
designator R?, comment 32
Resistenza SMD TE Connectivity Film sottile; Manufacturer_Part_Number: CPF0805B100RE; Voltage[V]: 100; Tollerance[%]: 0.1; Serie: CPF; Codice RS: 666-2516; Vendor: TE Connectivity; Type: Resistors; Package: 0805; Power[W]: 0.1; Value[OHM ]: 100
footprint RES_0816_SUS(My_MAXI)
pins: 1, 2

## RES_32R4_0.125W_1%_0805
designator R?, comment 32.4
Resistenza SMD TE Connectivity Film sottile; Manufacturer_Part_Number: CPF0805B100RE; Voltage[V]: 100; Tollerance[%]: 0.1; Serie: CPF; Codice RS: 666-2516; Vendor: TE Connectivity; Type: Resistors; Package: 0805; Power[W]: 0.1; Value[OHM ]: 100
footprint RES_0816_SUS(My_MAXI)
pins: 1, 2

## RES_32R8_0.125W_1%_0805
designator R?, comment 32.8
Resistenza SMD TE Connectivity Film sottile; Manufacturer_Part_Number: CPF0805B100RE; Voltage[V]: 100; Tollerance[%]: 0.1; Serie: CPF; Codice RS: 666-2516; Vendor: TE Connectivity; Type: Resistors; Package: 0805; Power[W]: 0.1; Value[OHM ]: 100
footprint RES_0816_SUS(My_MAXI)
pins: 1, 2

## RES_33R2_0.125W_1%_0805
designator R?, comment 33.2
Resistenza SMD TE Connectivity Film sottile; Manufacturer_Part_Number: CPF0805B100RE; Voltage[V]: 100; Tollerance[%]: 0.1; Serie: CPF; Codice RS: 666-2516; Vendor: TE Connectivity; Type: Resistors; Package: 0805; Power[W]: 0.1; Value[OHM ]: 100
footprint RES_0816_SUS(My_MAXI)
pins: 1, 2

## RES_33R6_0.125W_1%_0805
designator R?, comment 33.6
Resistenza SMD TE Connectivity Film sottile; Manufacturer_Part_Number: CPF0805B100RE; Voltage[V]: 100; Tollerance[%]: 0.1; Serie: CPF; Codice RS: 666-2516; Vendor: TE Connectivity; Type: Resistors; Package: 0805; Power[W]: 0.1; Value[OHM ]: 100
footprint RES_0816_SUS(My_MAXI)
pins: 1, 2

## RES_34R0_0.125W_1%_0805
designator R?, comment 34
Resistenza SMD TE Connectivity Film sottile; Manufacturer_Part_Number: CPF0805B100RE; Voltage[V]: 100; Tollerance[%]: 0.1; Serie: CPF; Codice RS: 666-2516; Vendor: TE Connectivity; Type: Resistors; Package: 0805; Power[W]: 0.1; Value[OHM ]: 100
footprint RES_0816_SUS(My_MAXI)
pins: 1, 2

## RES_34R4_0.125W_1%_0805
designator R?, comment 34.4
Resistenza SMD TE Connectivity Film sottile; Manufacturer_Part_Number: CPF0805B100RE; Voltage[V]: 100; Tollerance[%]: 0.1; Serie: CPF; Codice RS: 666-2516; Vendor: TE Connectivity; Type: Resistors; Package: 0805; Power[W]: 0.1; Value[OHM ]: 100
footprint RES_0816_SUS(My_MAXI)
pins: 1, 2

## RES_34R8_0.125W_1%_0805
designator R?, comment 34.8
Resistenza SMD TE Connectivity Film sottile; Manufacturer_Part_Number: CPF0805B100RE; Voltage[V]: 100; Tollerance[%]: 0.1; Serie: CPF; Codice RS: 666-2516; Vendor: TE Connectivity; Type: Resistors; Package: 0805; Power[W]: 0.1; Value[OHM ]: 100
footprint RES_0816_SUS(My_MAXI)
pins: 1, 2

## RES_35R2_0.125W_1%_0805
designator R?, comment 35.2
Resistenza SMD TE Connectivity Film sottile; Manufacturer_Part_Number: CPF0805B100RE; Voltage[V]: 100; Tollerance[%]: 0.1; Serie: CPF; Codice RS: 666-2516; Vendor: TE Connectivity; Type: Resistors; Package: 0805; Power[W]: 0.1; Value[OHM ]: 100
footprint RES_0816_SUS(My_MAXI)
pins: 1, 2

## RES_35R7_0.125W_1%_0805
designator R?, comment 35.7
Resistenza SMD TE Connectivity Film sottile; Manufacturer_Part_Number: CPF0805B100RE; Voltage[V]: 100; Tollerance[%]: 0.1; Serie: CPF; Codice RS: 666-2516; Vendor: TE Connectivity; Type: Resistors; Package: 0805; Power[W]: 0.1; Value[OHM ]: 100
footprint RES_0816_SUS(My_MAXI)
pins: 1, 2

## RES_36R1_0.125W_1%_0805
designator R?, comment 36.1
Resistenza SMD TE Connectivity Film sottile; Manufacturer_Part_Number: CPF0805B100RE; Voltage[V]: 100; Tollerance[%]: 0.1; Serie: CPF; Codice RS: 666-2516; Vendor: TE Connectivity; Type: Resistors; Package: 0805; Power[W]: 0.1; Value[OHM ]: 100
footprint RES_0816_SUS(My_MAXI)
pins: 1, 2

## RES_36R5_0.125W_1%_0805
designator R?, comment 35.5
Resistenza SMD TE Connectivity Film sottile; Manufacturer_Part_Number: CPF0805B100RE; Voltage[V]: 100; Tollerance[%]: 0.1; Serie: CPF; Codice RS: 666-2516; Vendor: TE Connectivity; Type: Resistors; Package: 0805; Power[W]: 0.1; Value[OHM ]: 100
footprint RES_0816_SUS(My_MAXI)
pins: 1, 2

## RES_37R0_0.125W_1%_0805
designator R?, comment 37
Resistenza SMD TE Connectivity Film sottile; Manufacturer_Part_Number: CPF0805B100RE; Voltage[V]: 100; Tollerance[%]: 0.1; Serie: CPF; Codice RS: 666-2516; Vendor: TE Connectivity; Type: Resistors; Package: 0805; Power[W]: 0.1; Value[OHM ]: 100
footprint RES_0816_SUS(My_MAXI)
pins: 1, 2

## RES_37R4_0.125W_1%_0805
designator R?, comment 37.4
Resistenza SMD TE Connectivity Film sottile; Manufacturer_Part_Number: CPF0805B100RE; Voltage[V]: 100; Tollerance[%]: 0.1; Serie: CPF; Codice RS: 666-2516; Vendor: TE Connectivity; Type: Resistors; Package: 0805; Power[W]: 0.1; Value[OHM ]: 100
footprint RES_0816_SUS(My_MAXI)
pins: 1, 2

## RES_37R9_0.125W_1%_0805
designator R?, comment 37.9
Resistenza SMD TE Connectivity Film sottile; Manufacturer_Part_Number: CPF0805B100RE; Voltage[V]: 100; Tollerance[%]: 0.1; Serie: CPF; Codice RS: 666-2516; Vendor: TE Connectivity; Type: Resistors; Package: 0805; Power[W]: 0.1; Value[OHM ]: 100
footprint RES_0816_SUS(My_MAXI)
pins: 1, 2

## RES_38R3_0.125W_1%_0805
designator R?, comment 38.3
Resistenza SMD TE Connectivity Film sottile; Manufacturer_Part_Number: CPF0805B100RE; Voltage[V]: 100; Tollerance[%]: 0.1; Serie: CPF; Codice RS: 666-2516; Vendor: TE Connectivity; Type: Resistors; Package: 0805; Power[W]: 0.1; Value[OHM ]: 100
footprint RES_0816_SUS(My_MAXI)
pins: 1, 2

## RES_38R8_0.125W_1%_0805
designator R?, comment 38.8
Resistenza SMD TE Connectivity Film sottile; Manufacturer_Part_Number: CPF0805B100RE; Voltage[V]: 100; Tollerance[%]: 0.1; Serie: CPF; Codice RS: 666-2516; Vendor: TE Connectivity; Type: Resistors; Package: 0805; Power[W]: 0.1; Value[OHM ]: 100
footprint RES_0816_SUS(My_MAXI)
pins: 1, 2

## RES_39R2_0.125W_1%_0805
designator R?, comment 39.2
Resistenza SMD TE Connectivity Film sottile; Manufacturer_Part_Number: CPF0805B100RE; Voltage[V]: 100; Tollerance[%]: 0.1; Serie: CPF; Codice RS: 666-2516; Vendor: TE Connectivity; Type: Resistors; Package: 0805; Power[W]: 0.1; Value[OHM ]: 100
footprint RES_0816_SUS(My_MAXI)
pins: 1, 2

## RES_39R7_0.125W_1%_0805
designator R?, comment 39.7
Resistenza SMD TE Connectivity Film sottile; Manufacturer_Part_Number: CPF0805B100RE; Voltage[V]: 100; Tollerance[%]: 0.1; Serie: CPF; Codice RS: 666-2516; Vendor: TE Connectivity; Type: Resistors; Package: 0805; Power[W]: 0.1; Value[OHM ]: 100
footprint RES_0816_SUS(My_MAXI)
pins: 1, 2

## RES_40R2_0.125W_1%_0805
designator R?, comment 40.2
Resistenza SMD TE Connectivity Film sottile; Manufacturer_Part_Number: CPF0805B100RE; Voltage[V]: 100; Tollerance[%]: 0.1; Serie: CPF; Codice RS: 666-2516; Vendor: TE Connectivity; Type: Resistors; Package: 0805; Power[W]: 0.1; Value[OHM ]: 100
footprint RES_0816_SUS(My_MAXI)
pins: 1, 2

## RES_40R7_0.125W_1%_0805
designator R?, comment 40.7
Resistenza SMD TE Connectivity Film sottile; Manufacturer_Part_Number: CPF0805B100RE; Voltage[V]: 100; Tollerance[%]: 0.1; Serie: CPF; Codice RS: 666-2516; Vendor: TE Connectivity; Type: Resistors; Package: 0805; Power[W]: 0.1; Value[OHM ]: 100
footprint RES_0816_SUS(My_MAXI)
pins: 1, 2

## RES_41R2_0.125W_1%_0805
designator R?, comment 41.2
Resistenza SMD TE Connectivity Film sottile; Manufacturer_Part_Number: CPF0805B100RE; Voltage[V]: 100; Tollerance[%]: 0.1; Serie: CPF; Codice RS: 666-2516; Vendor: TE Connectivity; Type: Resistors; Package: 0805; Power[W]: 0.1; Value[OHM ]: 100
footprint RES_0816_SUS(My_MAXI)
pins: 1, 2

## RES_41R7_0.125W_1%_0805
designator R?, comment 41.7
Resistenza SMD TE Connectivity Film sottile; Manufacturer_Part_Number: CPF0805B100RE; Voltage[V]: 100; Tollerance[%]: 0.1; Serie: CPF; Codice RS: 666-2516; Vendor: TE Connectivity; Type: Resistors; Package: 0805; Power[W]: 0.1; Value[OHM ]: 100
footprint RES_0816_SUS(My_MAXI)
pins: 1, 2

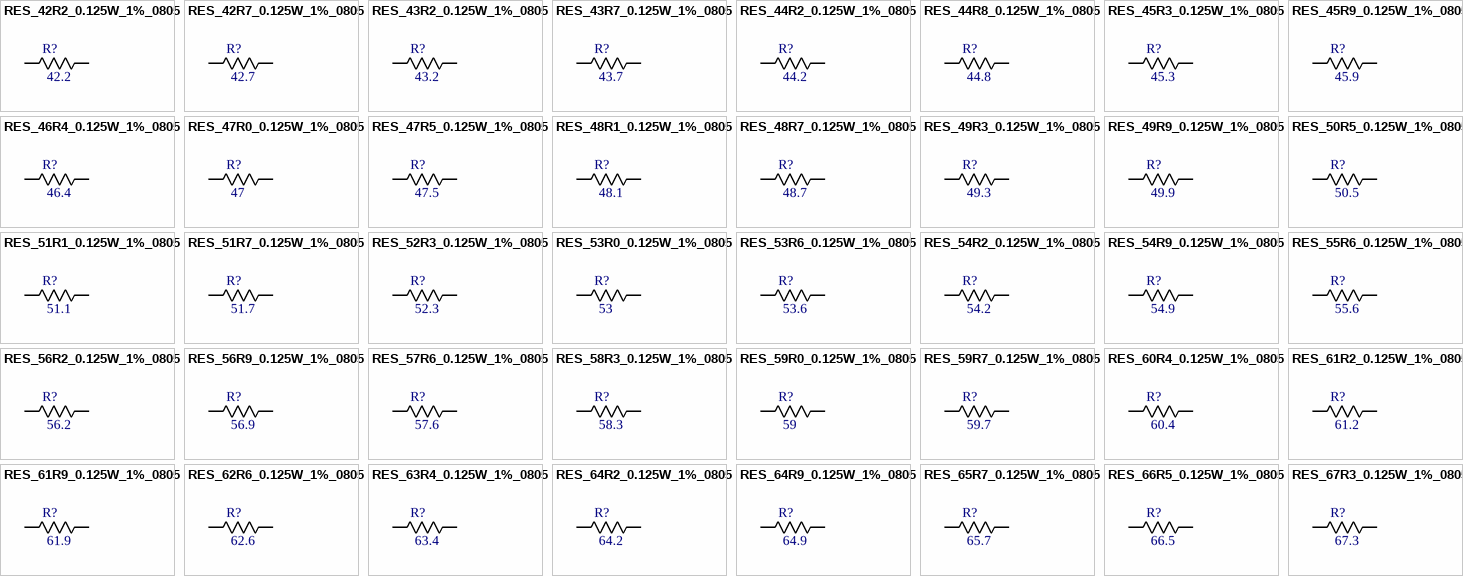
[diagram p3: symbols RES_42R2_0.125W_1%_0805 to RES_67R3_0.125W_1%_0805]

## RES_42R2_0.125W_1%_0805
designator R?, comment 42.2
Resistenza SMD TE Connectivity Film sottile; Manufacturer_Part_Number: CPF0805B100RE; Voltage[V]: 100; Tollerance[%]: 0.1; Serie: CPF; Codice RS: 666-2516; Vendor: TE Connectivity; Type: Resistors; Package: 0805; Power[W]: 0.1; Value[OHM ]: 100
footprint RES_0816_SUS(My_MAXI)
pins: 1, 2

## RES_42R7_0.125W_1%_0805
designator R?, comment 42.7
Resistenza SMD TE Connectivity Film sottile; Manufacturer_Part_Number: CPF0805B100RE; Voltage[V]: 100; Tollerance[%]: 0.1; Serie: CPF; Codice RS: 666-2516; Vendor: TE Connectivity; Type: Resistors; Package: 0805; Power[W]: 0.1; Value[OHM ]: 100
footprint RES_0816_SUS(My_MAXI)
pins: 1, 2

## RES_43R2_0.125W_1%_0805
designator R?, comment 43.2
Resistenza SMD TE Connectivity Film sottile; Manufacturer_Part_Number: CPF0805B100RE; Voltage[V]: 100; Tollerance[%]: 0.1; Serie: CPF; Codice RS: 666-2516; Vendor: TE Connectivity; Type: Resistors; Package: 0805; Power[W]: 0.1; Value[OHM ]: 100
footprint RES_0816_SUS(My_MAXI)
pins: 1, 2

## RES_43R7_0.125W_1%_0805
designator R?, comment 43.7
Resistenza SMD TE Connectivity Film sottile; Manufacturer_Part_Number: CPF0805B100RE; Voltage[V]: 100; Tollerance[%]: 0.1; Serie: CPF; Codice RS: 666-2516; Vendor: TE Connectivity; Type: Resistors; Package: 0805; Power[W]: 0.1; Value[OHM ]: 100
footprint RES_0816_SUS(My_MAXI)
pins: 1, 2

## RES_44R2_0.125W_1%_0805
designator R?, comment 44.2
Resistenza SMD TE Connectivity Film sottile; Manufacturer_Part_Number: CPF0805B100RE; Voltage[V]: 100; Tollerance[%]: 0.1; Serie: CPF; Codice RS: 666-2516; Vendor: TE Connectivity; Type: Resistors; Package: 0805; Power[W]: 0.1; Value[OHM ]: 100
footprint RES_0816_SUS(My_MAXI)
pins: 1, 2

## RES_44R8_0.125W_1%_0805
designator R?, comment 44.8
Resistenza SMD TE Connectivity Film sottile; Manufacturer_Part_Number: CPF0805B100RE; Voltage[V]: 100; Tollerance[%]: 0.1; Serie: CPF; Codice RS: 666-2516; Vendor: TE Connectivity; Type: Resistors; Package: 0805; Power[W]: 0.1; Value[OHM ]: 100
footprint RES_0816_SUS(My_MAXI)
pins: 1, 2

## RES_45R3_0.125W_1%_0805
designator R?, comment 45.3
Resistenza SMD TE Connectivity Film sottile; Manufacturer_Part_Number: CPF0805B100RE; Voltage[V]: 100; Tollerance[%]: 0.1; Serie: CPF; Codice RS: 666-2516; Vendor: TE Connectivity; Type: Resistors; Package: 0805; Power[W]: 0.1; Value[OHM ]: 100
footprint RES_0816_SUS(My_MAXI)
pins: 1, 2

## RES_45R9_0.125W_1%_0805
designator R?, comment 45.9
Resistenza SMD TE Connectivity Film sottile; Manufacturer_Part_Number: CPF0805B100RE; Voltage[V]: 100; Tollerance[%]: 0.1; Serie: CPF; Codice RS: 666-2516; Vendor: TE Connectivity; Type: Resistors; Package: 0805; Power[W]: 0.1; Value[OHM ]: 100
footprint RES_0816_SUS(My_MAXI)
pins: 1, 2

## RES_46R4_0.125W_1%_0805
designator R?, comment 46.4
Resistenza SMD TE Connectivity Film sottile; Manufacturer_Part_Number: CPF0805B100RE; Voltage[V]: 100; Tollerance[%]: 0.1; Serie: CPF; Codice RS: 666-2516; Vendor: TE Connectivity; Type: Resistors; Package: 0805; Power[W]: 0.1; Value[OHM ]: 100
footprint RES_0816_SUS(My_MAXI)
pins: 1, 2

## RES_47R0_0.125W_1%_0805
designator R?, comment 47
Resistenza SMD TE Connectivity Film sottile; Manufacturer_Part_Number: CPF0805B100RE; Voltage[V]: 100; Tollerance[%]: 0.1; Serie: CPF; Codice RS: 666-2516; Vendor: TE Connectivity; Type: Resistors; Package: 0805; Power[W]: 0.1; Value[OHM ]: 100
footprint RES_0816_SUS(My_MAXI)
pins: 1, 2

## RES_47R5_0.125W_1%_0805
designator R?, comment 47.5
Resistenza SMD TE Connectivity Film sottile; Manufacturer_Part_Number: CPF0805B100RE; Voltage[V]: 100; Tollerance[%]: 0.1; Serie: CPF; Codice RS: 666-2516; Vendor: TE Connectivity; Type: Resistors; Package: 0805; Power[W]: 0.1; Value[OHM ]: 100
footprint RES_0816_SUS(My_MAXI)
pins: 1, 2

## RES_48R1_0.125W_1%_0805
designator R?, comment 48.1
Resistenza SMD TE Connectivity Film sottile; Manufacturer_Part_Number: CPF0805B100RE; Voltage[V]: 100; Tollerance[%]: 0.1; Serie: CPF; Codice RS: 666-2516; Vendor: TE Connectivity; Type: Resistors; Package: 0805; Power[W]: 0.1; Value[OHM ]: 100
footprint RES_0816_SUS(My_MAXI)
pins: 1, 2

## RES_48R7_0.125W_1%_0805
designator R?, comment 48.7
Resistenza SMD TE Connectivity Film sottile; Manufacturer_Part_Number: CPF0805B100RE; Voltage[V]: 100; Tollerance[%]: 0.1; Serie: CPF; Codice RS: 666-2516; Vendor: TE Connectivity; Type: Resistors; Package: 0805; Power[W]: 0.1; Value[OHM ]: 100
footprint RES_0816_SUS(My_MAXI)
pins: 1, 2

## RES_49R3_0.125W_1%_0805
designator R?, comment 49.3
Resistenza SMD TE Connectivity Film sottile; Manufacturer_Part_Number: CPF0805B100RE; Voltage[V]: 100; Tollerance[%]: 0.1; Serie: CPF; Codice RS: 666-2516; Vendor: TE Connectivity; Type: Resistors; Package: 0805; Power[W]: 0.1; Value[OHM ]: 100
footprint RES_0816_SUS(My_MAXI)
pins: 1, 2

## RES_49R9_0.125W_1%_0805
designator R?, comment 49.9
Resistenza SMD TE Connectivity Film sottile; Manufacturer_Part_Number: CPF0805B100RE; Voltage[V]: 100; Tollerance[%]: 0.1; Serie: CPF; Codice RS: 666-2516; Vendor: TE Connectivity; Type: Resistors; Package: 0805; Power[W]: 0.1; Value[OHM ]: 100
footprint RES_0816_SUS(My_MAXI)
pins: 1, 2

## RES_50R5_0.125W_1%_0805
designator R?, comment 50.5
Resistenza SMD TE Connectivity Film sottile; Manufacturer_Part_Number: CPF0805B100RE; Voltage[V]: 100; Tollerance[%]: 0.1; Serie: CPF; Codice RS: 666-2516; Vendor: TE Connectivity; Type: Resistors; Package: 0805; Power[W]: 0.1; Value[OHM ]: 100
footprint RES_0816_SUS(My_MAXI)
pins: 1, 2

## RES_51R1_0.125W_1%_0805
designator R?, comment 51.1
Resistenza SMD TE Connectivity Film sottile; Manufacturer_Part_Number: CPF0805B100RE; Voltage[V]: 100; Tollerance[%]: 0.1; Serie: CPF; Codice RS: 666-2516; Vendor: TE Connectivity; Type: Resistors; Package: 0805; Power[W]: 0.1; Value[OHM ]: 100
footprint RES_0816_SUS(My_MAXI)
pins: 1, 2

## RES_51R7_0.125W_1%_0805
designator R?, comment 51.7
Resistenza SMD TE Connectivity Film sottile; Manufacturer_Part_Number: CPF0805B100RE; Voltage[V]: 100; Tollerance[%]: 0.1; Serie: CPF; Codice RS: 666-2516; Vendor: TE Connectivity; Type: Resistors; Package: 0805; Power[W]: 0.1; Value[OHM ]: 100
footprint RES_0816_SUS(My_MAXI)
pins: 1, 2

## RES_52R3_0.125W_1%_0805
designator R?, comment 52.3
Resistenza SMD TE Connectivity Film sottile; Manufacturer_Part_Number: CPF0805B100RE; Voltage[V]: 100; Tollerance[%]: 0.1; Serie: CPF; Codice RS: 666-2516; Vendor: TE Connectivity; Type: Resistors; Package: 0805; Power[W]: 0.1; Value[OHM ]: 100
footprint RES_0816_SUS(My_MAXI)
pins: 1, 2

## RES_53R0_0.125W_1%_0805
designator R?, comment 53
Resistenza SMD TE Connectivity Film sottile; Manufacturer_Part_Number: CPF0805B100RE; Voltage[V]: 100; Tollerance[%]: 0.1; Serie: CPF; Codice RS: 666-2516; Vendor: TE Connectivity; Type: Resistors; Package: 0805; Power[W]: 0.1; Value[OHM ]: 100
footprint RES_0816_SUS(My_MAXI)
pins: 1, 2

## RES_53R6_0.125W_1%_0805
designator R?, comment 53.6
Resistenza SMD TE Connectivity Film sottile; Manufacturer_Part_Number: CPF0805B100RE; Voltage[V]: 100; Tollerance[%]: 0.1; Serie: CPF; Codice RS: 666-2516; Vendor: TE Connectivity; Type: Resistors; Package: 0805; Power[W]: 0.1; Value[OHM ]: 100
footprint RES_0816_SUS(My_MAXI)
pins: 1, 2

## RES_54R2_0.125W_1%_0805
designator R?, comment 54.2
Resistenza SMD TE Connectivity Film sottile; Manufacturer_Part_Number: CPF0805B100RE; Voltage[V]: 100; Tollerance[%]: 0.1; Serie: CPF; Codice RS: 666-2516; Vendor: TE Connectivity; Type: Resistors; Package: 0805; Power[W]: 0.1; Value[OHM ]: 100
footprint RES_0816_SUS(My_MAXI)
pins: 1, 2

## RES_54R9_0.125W_1%_0805
designator R?, comment 54.9
Resistenza SMD TE Connectivity Film sottile; Manufacturer_Part_Number: CPF0805B100RE; Voltage[V]: 100; Tollerance[%]: 0.1; Serie: CPF; Codice RS: 666-2516; Vendor: TE Connectivity; Type: Resistors; Package: 0805; Power[W]: 0.1; Value[OHM ]: 100
footprint RES_0816_SUS(My_MAXI)
pins: 1, 2

## RES_55R6_0.125W_1%_0805
designator R?, comment 55.6
Resistenza SMD TE Connectivity Film sottile; Manufacturer_Part_Number: CPF0805B100RE; Voltage[V]: 100; Tollerance[%]: 0.1; Serie: CPF; Codice RS: 666-2516; Vendor: TE Connectivity; Type: Resistors; Package: 0805; Power[W]: 0.1; Value[OHM ]: 100
footprint RES_0816_SUS(My_MAXI)
pins: 1, 2